# Altium schematic symbol library 691 230 310 0xx.SchLib: 2 symbols
Pins are listed as number, name and electrical type; pins without a type are passive.

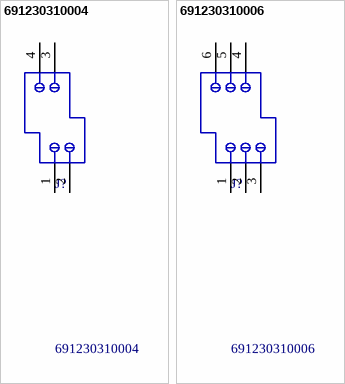
[diagram p0: symbols 691230310004 to 691230310006]

## 691230310004
designator J?
WR-TBL Double Level Horizontal Entry Modular,Serie 2303 - 3.81 mm with Rising Clamp; Manufacturer: Würth Elektronik eiSos GmbH; ComponentLink1 Description: Manufacturer; ComponentLink2 Description: Datasheet; NoPins: 4; Created Date: 18 Novenber 2013; partNo: 691230310004; ComponentLink1URL: http://www.we-online.com; ComponentLink2URL: http://katalog.we-online.de/em/datasheet/6912303100xx.pdf; Created by: Karrer Zheng
footprint 691230310004 (3,81mm - modular - 2 rows - Right - horizontal entry with rising cage clamp - 04p)
pins: 1, 2, 3, 4

## 691230310006
designator J?
WR-TBL Double Level Horizontal Entry Modular,Serie 2303 - 3.81 mm with Rising Clamp; Manufacturer: Würth Elektronik eiSos GmbH; ComponentLink1 Description: Manufacturer; ComponentLink2 Description: Datasheet; NoPins: 6; Created Date: 18 Novenber 2013; partNo: 691230310006; ComponentLink1URL: http://www.we-online.com; ComponentLink2URL: http://katalog.we-online.de/em/datasheet/6912303100xx.pdf; Created by: Karrer Zheng
footprint 691230310006 (3,81mm - modular - 2 rows - Right - horizontal entry with rising cage clamp - 06p)
pins: 1, 2, 3, 4, 5, 6